# Altium schematic symbol library IC_TI_TMDS181IRGZT.SchLib: 1 symbol
Pins are listed as number, name and electrical type; pins without a type are passive.

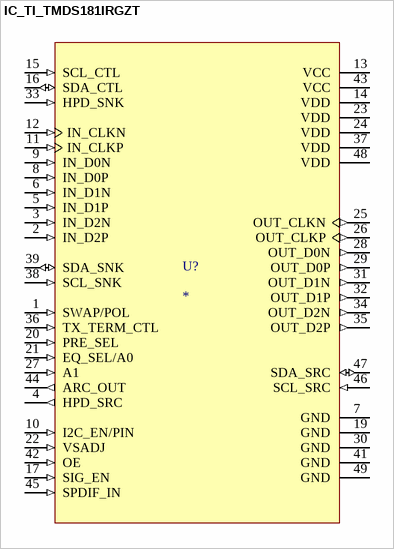
[diagram p0: symbol IC_TI_TMDS181IRGZT]

## IC_TI_TMDS181IRGZT
designator U?
6 Gbps HDMI&reg; Retimer 48-VQFN -40 to 85; MF: Texas Instruments; MP: TMDS181IRGZT; Availability: Warning; Value: *; Price: None; Check_prices: https://www.snapeda.com/parts/TMDS181IRGZT/Texas%20Instruments/view-part/1155060/?ref=eda; Purchase-URL: https://pricing.snapeda.com/search/part/TMDS181IRGZT/?ref=eda; SnapEDA_Link: https://www.snapeda.com/parts/TMDS181IRGZT/Texas%20Instruments/view-part/1155060/?ref=snap; Package: VQFN-48 Texas Instruments
footprint IC_TMDS181IRGZT
pins: 1 SWAP/POL (in), 2 IN_D2P (in), 3 IN_D2N (in), 4 HPD_SRC (out), 5 IN_D1P (in), 6 IN_D1N (in), 7 GND (power), 8 IN_D0P (in), 9 IN_D0N (in), 10 I2C_EN/PIN (in), 11 IN_CLKP (in), 12 IN_CLKN (in), 13 VCC (power), 14 VDD (power), 15 SCL_CTL (in), 16 SDA_CTL (io), 17 SIG_EN (in), 19 GND (power), 20 PRE_SEL (in), 21 EQ_SEL/A0 (in), 22 VSADJ (in), 23 VDD (power), 24 VDD (power), 25 OUT_CLKN (out), 26 OUT_CLKP (out), 27 A1 (in), 28 OUT_D0N (out), 29 OUT_D0P (out), 30 GND (power), 31 OUT_D1N (out), 32 OUT_D1P (out), 33 HPD_SNK (in), 34 OUT_D2N (out), 35 OUT_D2P (out), 36 TX_TERM_CTL (in), 37 VDD (power), 38 SCL_SNK (in), 39 SDA_SNK (io), 41 GND (power), 42 OE (in), 43 VCC (power), 44 ARC_OUT (out), 45 SPDIF_IN (in), 46 SCL_SRC (in), 47 SDA_SRC (io), 48 VDD (power), 49 GND (power)